# Altium schematic symbol library 4.7uH.SchLib: 1 symbol
Pins are listed as number, name and electrical type; pins without a type are passive.

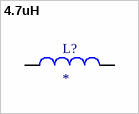
[diagram p0: symbol 4.7uH]

## 4.7uH
designator L?
Inductor Power Shielded Multi-Layer 4.7uH 20% 1MHz Metal 1.4A 180mOhm DCR 1210 T/R; MP: 1277AS-H-4R7M=P2; Package: None; Price: None; Value: *; Availability: Unavailable
footprint 4.7uH
pins: 1, 2